# Altium schematic symbol library Electrica.SchLib: 11 symbols
Pins are listed as number, name and electrical type; pins without a type are passive.

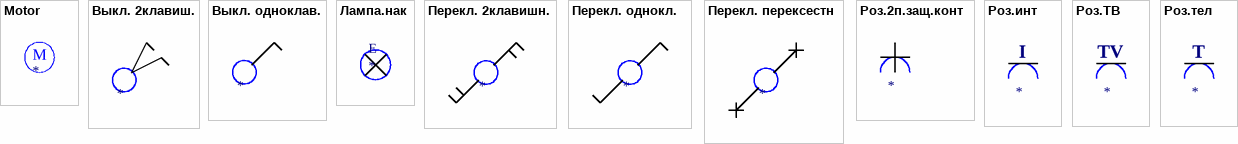
[diagram p0: symbols Motor to Роз.тел]

## Motor
designator SW
text: M

## Выкл. 2клавиш.
designator SW

## Выкл. одноклав.
designator SW

## Лампа.нак
designator E

## Перекл. 2клавишн.
designator SW

## Перекл. однокл.
designator SW

## Перекл. перексестн
designator SW

## Роз.2п.защ.конт
designator SW

## Роз.инт
designator SW
text: I

## Роз.ТВ
designator SW
text: TV

## Роз.тел
designator SW
text: T